# Altium footprint library BSR NODE_V2.0 LIB.PcbLib: 41 footprints (part 2 of 3)
Each footprint in its own frame and in the unit in brackets; x right, y up, seen from the top. Pads: shape width x height; smd on the part's side, far side on the other; paste and mask are expansions set on the pad; w line width, h text height; cw(c..) or ccw(c..) is an arc to the next point about the centre after c.
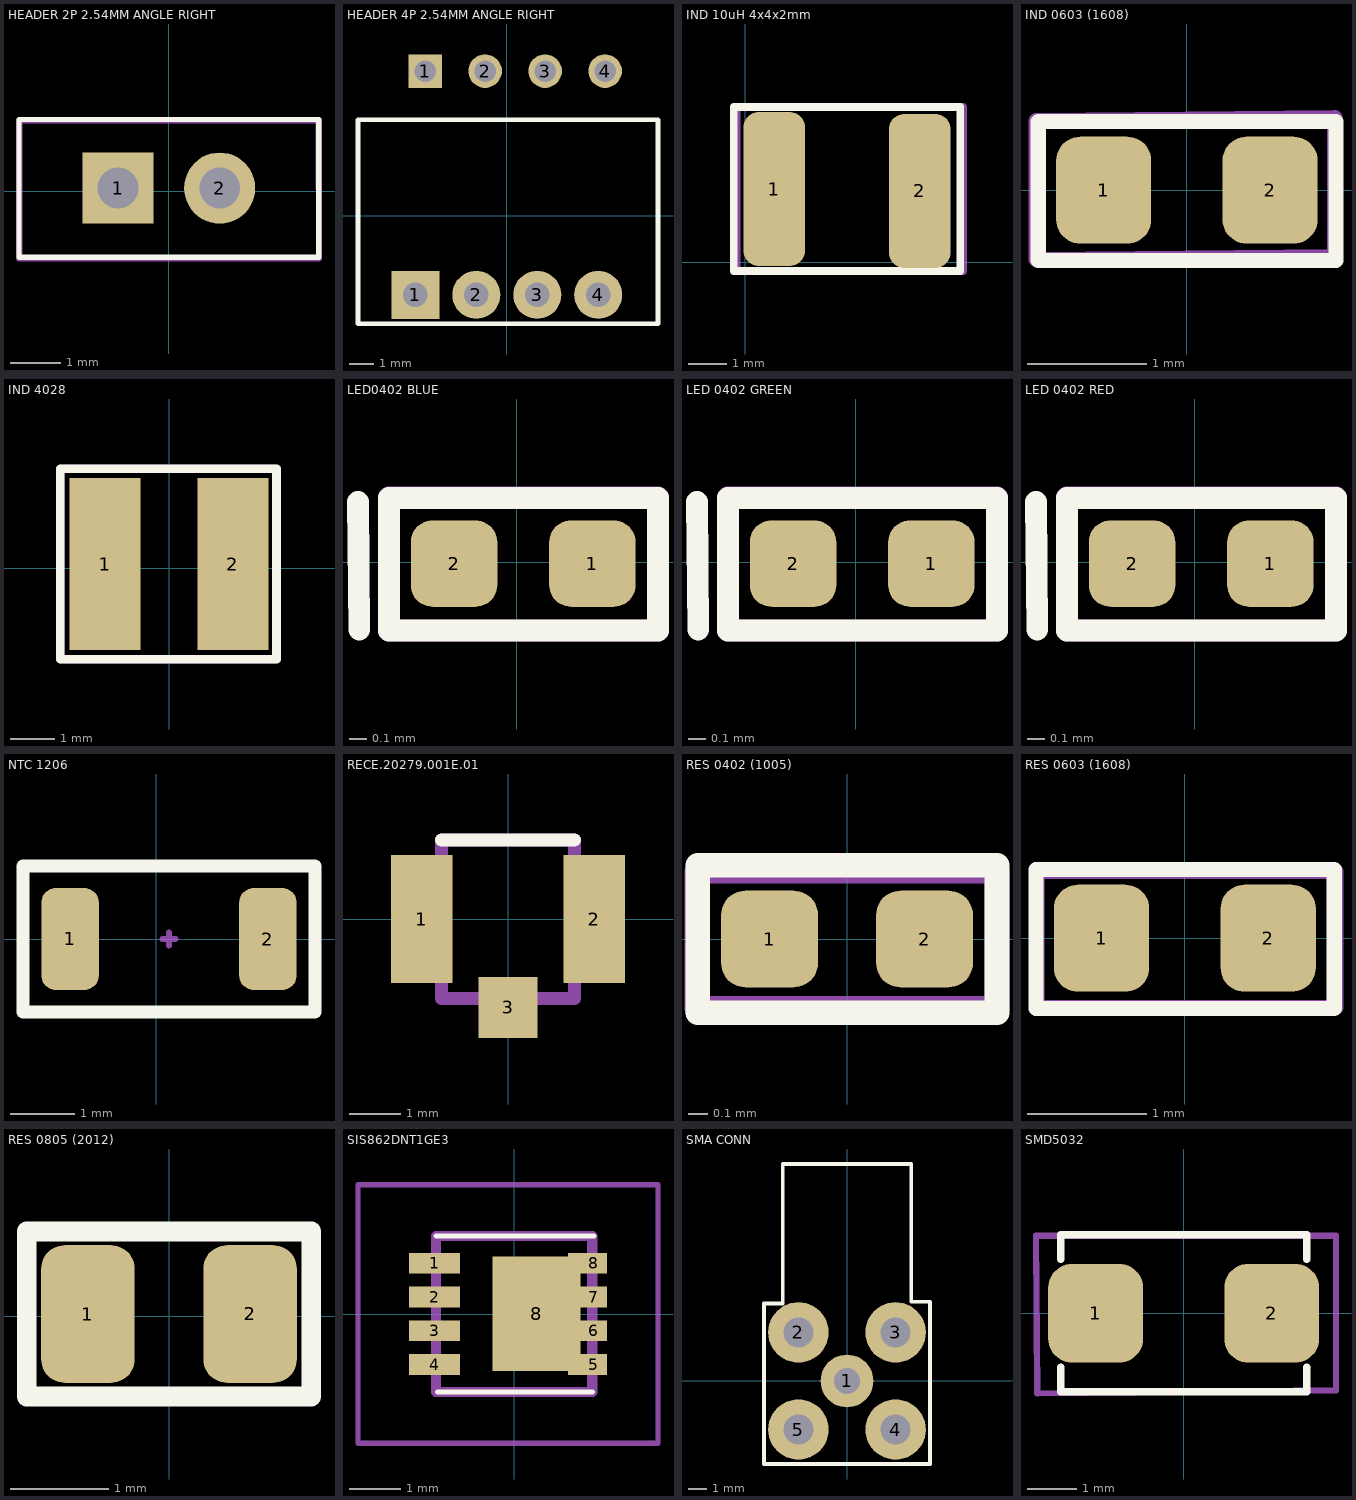
[diagram p1: the footprints below, top view; thin cyan lines are the x and y axes]

## HEADER 2P 2.54MM ANGLE RIGHT [mm]
pads (2):
  rect 1.4x1.4 hole 0.8: 1(-1,0.066)
  round 1.4 hole 0.8: 2(1,0.066)
Top Overlay:
  lines w0.1: -2.949,-1.295 2.951,-1.295 2.951,1.416 -2.949,1.416 -2.949,-1.295
Mechanical 15:
  lines w0.127: -2.946,-1.321 -2.946,1.397 2.946,1.397 2.956,-1.321 -2.946,-1.321
  text "'.Designator'" at 0.025,-0.025 h0.38

## HEADER 4P 2.54MM ANGLE RIGHT [mm]
pads (8):
  rect 2x2 hole 1.02: 1(-3.81,-3.302)
  rect 1.4x1.4 hole 0.9: 1(-3.404,6.02)
  round 2 hole 1.02: 2(-1.27,-3.302) 3(1.27,-3.302) 4(3.81,-3.302)
  round 1.4 hole 0.9: 2(-0.904,6.02) 3(1.596,6.02) 4(4.096,6.02)
Top Overlay:
  lines w0.2: -6.2,-4.502 6.3,-4.502 6.3,3.998 -6.2,3.998 -6.2,-4.502
Mechanical 15:
  lines w0.127: -6.198,-4.493 -6.172,3.988 6.299,4.013 6.299,-4.482 6.289,-4.493 -6.198,-4.493
  text "'.Designator'" at -1.939,-0.982 h0.38
3D body "User Library-XH2_54-4P-AW.STEP": height 5.81, standoff -3.09, extent -6.25,-3.602 6.25,3.998

## IND 10uH 4x4x2mm [mil]
pads (2):
  rrect50% 64x160 smd: 1(30,76) 2(181,74)
Top Overlay:
  lines w7.87: -12,-9 223,-9 223,161 -12,161 -12,-9
Mechanical 13:
  text "*" at 29.26,76 h50
Mechanical 15:
  lines w7.87: -9,-9 226,-9 226,161 -9,161 -9,-9
  text "'.Designator'" at -49,-3 h30
3D body "69812.stp": height 70.87, standoff 0, extent 20.39,-2.74 193.62,154.74

## IND 0603 (1608) [mm]
pads (2):
  rrect50% 0.8x0.9 smd mask+0.05: 1(-0.7,0) 2(0.7,0)
Top Overlay:
  lines w0.127: -1.251,-0.591 -1.251,0.576 1.255,0.576 1.255,-0.591 -1.251,-0.591
Mechanical 15:
  lines w0.127: -1.27,-0.584 -1.27,0.584 1.245,0.61 1.245,-0.559 -1.27,-0.584
  text "'.Designator'" at -1.118,-0.178 h0.51
3D body "Coilcraft-0603DC.STEP": height 0.86, standoff 0, extent -0.81,-0.349 0.81,0.381

## IND 4028 [mm]
pads (2):
  rect 1.6x3.9 smd: 1(-1.45,0.102) 2(1.45,0.102)
Top Overlay:
  lines w0.2: -2.464,-2.057 -2.464,2.261 2.438,2.261 2.438,-2.057 -2.464,-2.057
Mechanical 13:
  text "*" at -1.492,0.102 h1.27
Mechanical 15:
  lines w0.2: -2.464,-2.057 2.438,-2.057 2.438,2.261 -2.464,2.261 -2.464,-2.057
  text "'.Designator'" at -1.245,-0.025 h0.76
3D body "69812.stp": height 1.8, standoff 0, extent -2.195,-1.907 2.205,2.093

## LED0402 BLUE [mm]
pads (2):
  rrect50% 0.5x0.5 smd mask+0.05: 1(0.438,-0.009) 2(-0.362,-0.009)
Top Overlay:
  lines w0.127: -0.917,0.348 -0.91,-0.391 ; -0.737,-0.395 0.816,-0.395 0.816,0.371 -0.737,0.371 -0.737,-0.395
Mechanical 15:
  lines w0.127: -0.739,-0.396 -0.739,0.373 0.817,0.373 0.817,-0.396 -0.739,-0.396
  text "'.Designator'" at -0.597,-0.187 h0.38
3D body "User Library-LED_1006_B.STEP": height 0.2, standoff 0, extent -0.5,-0.3 0.5,0.3

## LED 0402 GREEN [mm]
pads (2):
  rrect50% 0.5x0.5 smd mask+0.05: 1(0.438,-0.009) 2(-0.362,-0.009)
Top Overlay:
  lines w0.127: -0.917,0.348 -0.91,-0.391 ; -0.737,-0.395 0.816,-0.395 0.816,0.371 -0.737,0.371 -0.737,-0.395
Mechanical 15:
  lines w0.127: -0.739,-0.396 -0.739,0.373 0.817,0.373 0.817,-0.396 -0.739,-0.396
  text "'.Designator'" at -0.597,-0.187 h0.38
3D body "User Library-LED_1006_G.STEP": height 0.2, standoff 0, extent -0.5,-0.3 0.5,0.3

## LED 0402 RED [mm]
pads (2):
  rrect50% 0.5x0.5 smd mask+0.05: 1(0.438,-0.009) 2(-0.362,-0.009)
Top Overlay:
  lines w0.127: -0.917,0.348 -0.91,-0.391 ; -0.737,-0.395 -0.737,0.371 0.816,0.371 0.816,-0.395 -0.737,-0.395
Mechanical 15:
  lines w0.127: -0.739,-0.396 0.817,-0.396 0.817,0.373 -0.739,0.373 -0.739,-0.396
  text "'.Designator'" at -0.597,-0.187 h0.38
3D body "User Library-LED_1006_R.STEP": height 0.2, standoff 0, extent -0.5,-0.3 0.5,0.3

## NTC 1206 [mm]
pads (2):
  rrect50% 0.9x1.6 smd: 1(-1.35,0) 2(1.75,0)
Top Overlay:
  lines w0.2: -2.086,-1.143 2.486,-1.143 2.486,1.143 -2.086,1.143 -2.086,-1.143
Mechanical 15:
  lines w0.1: 0.1,0 0.3,0 ; 0.2,-0.1 0.2,0.1 ; -2.1,-1.1 -2.1,1.1 2.5,1.1 2.5,-1.1 -2.1,-1.1
  text ".Designator" at -1.6,-0.4 h1
3D body "0ZCJ0075AF2E.STEP": height 0.43, standoff -0.43, extent -1.422,-0.825 1.828,0.825

## RECE.20279.001E.01 [mm]
pads (3):
  rect 1.2x2.5 smd: 1(-1.685,0) 2(1.685,0)
  rect 1.15x1.2 smd: 3(0,-1.73)
Top Overlay:
  lines w0.254: -1.3,1.55 1.3,1.55
Mechanical 13:
  lines w0.254: -1.3,-1.55 -1.3,1.55 1.3,1.55 1.3,-1.55 -1.3,-1.55
3D body "RECE-20279-001E-01.stp": height 1.34, standoff 0, extent -1.5,-1.76 1.5,1.24

## RES 0402 (1005) [mm]
pads (2):
  rrect50% 0.5x0.5 smd mask+0.05: 1(-0.4,0) 2(0.4,0)
Top Overlay:
  lines w0.127: -0.772,-0.381 -0.772,0.381 0.774,0.381 0.774,-0.381 -0.772,-0.381
Mechanical 15:
  lines w0.127: -0.775,-0.359 -0.775,0.35 0.774,0.35 0.774,-0.359 -0.775,-0.359
  text "'.Designator'" at -0.559,-0.203 h0.38
3D body "User Library-SMD RESISTOR-0402.STEP": height 0.35, standoff 0, extent -0.5,-0.25 0.5,0.25

## RES 0603 (1608) [mm]
pads (2):
  rrect50% 0.8x0.9 smd mask+0.05: 1(-0.7,0) 2(0.7,0)
Top Overlay:
  lines w0.127: -1.251,-0.591 1.255,-0.591 1.255,0.576 -1.251,0.576 -1.251,-0.591
Mechanical 15:
  lines w0.127: -1.245,-0.584 -1.245,0.559 1.27,0.559 1.27,-0.584 -1.245,-0.584
  text "'.Designator'" at -1.118,-0.178 h0.51
3D body "User Library-SMD RESISTOR-0603.step": height 0.45, standoff 0, extent -0.8,-0.4 0.8,0.4

## RES 0805 (2012) [mm]
pads (2):
  rrect50% 0.95x1.4 smd mask+0.05: 1(-0.825,0.025) 2(0.825,0.025)
Top Overlay:
  lines w0.2: -1.448,-0.813 -1.448,0.864 1.448,0.864 1.448,-0.813 -1.448,-0.813
Mechanical 15:
  lines w0.127: -1.448,-0.813 1.448,-0.813 1.448,0.864 -1.448,0.864 -1.448,-0.813
  text "'.Designator'" at -1.12,-0.114 h0.38
3D body "User Library-RES0805-2.STEP": height 0.55, standoff 0, extent -1,-0.625 1,0.625

## SIS862DNT1GE3 [mm]
pads (11):
  rect 0.99x0.405 smd: 1(-1.555,0.992) 2(-1.555,0.332) 3(-1.555,-0.328) 4(-1.555,-0.988)
  rect 0.51x0.405 smd: 5(1.555,-0.988) 6(1.555,-0.328) 7(1.555,0.332) 8(1.555,0.992)
  rect 1.725x2.235 smd: 8(0.438,0.002)
  rect 0.25x0.077 smd: 8(1.175,-1.156) 8(1.175,1.156)
Top Overlay:
  lines w0.1: -1.525,1.525 1.555,1.525 ; -1.5,-1.525 1.525,-1.525
Mechanical 13:
  lines w0.2: -1.525,-1.525 1.525,-1.525 1.525,1.525 -1.525,1.525 -1.525,-1.525
Mechanical 15:
  lines w0.1: -3.05,-2.525 2.81,-2.525 2.81,2.525 -3.05,2.525 -3.05,-2.525
3D body "SIS413DN-T1-GE3.stp": height 1.06, standoff 0, extent -1.775,-1.65 1.535,1.65

## SMA CONN [mm]
pads (5):
  round 2.8 hole 1.4: 1(0,0)
  round 3.2 hole 1.6: 2(-2.575,2.575) 3(2.575,2.575) 4(2.575,-2.575) 5(-2.575,-2.575)
Top Overlay:
  lines w0.2: -4.3,4.1 -4.4,4.1 ; -4.4,4.1 -3.4,4.1 -3.4,11.5 3.4,11.5 3.4,4.2 4.4,4.2 4.4,-4.4 -4.4,-4.4 -4.4,4.1
3D body "PCB.SMAFRA.HT--3DModel-STEP-56544.STEP": height 8.7, standoff -5.35, extent -3.5,-3.5 3.5,11.6

## SMD5032 [mil]
pads (2):
  rrect50% 76x79 smd: 1(-70.5,0) 2(70.5,0)
Top Overlay:
  lines w5.98: -98.43,-43.31 -98.43,-62.99 98.43,-62.99 98.43,-43.31 ; -98.43,43.31 -98.43,62.98 ; 98.43,43.31 98.43,62.99
  lines w6: -98.42,62.99 98.43,62.99
Mechanical 15:
  lines w5: -118.29,62 122,62 122,-61.76 -117.28,-64.2 -118.29,62
  text "'.Designator'" at -116.01,-10.44 h20
3D body "ECS-80-8-30Q-VY-TR.STEP": height 43.31, standoff 0, extent -98.42,-62.99 98.43,63